# EAGLE library part DS3234 (library Mine)
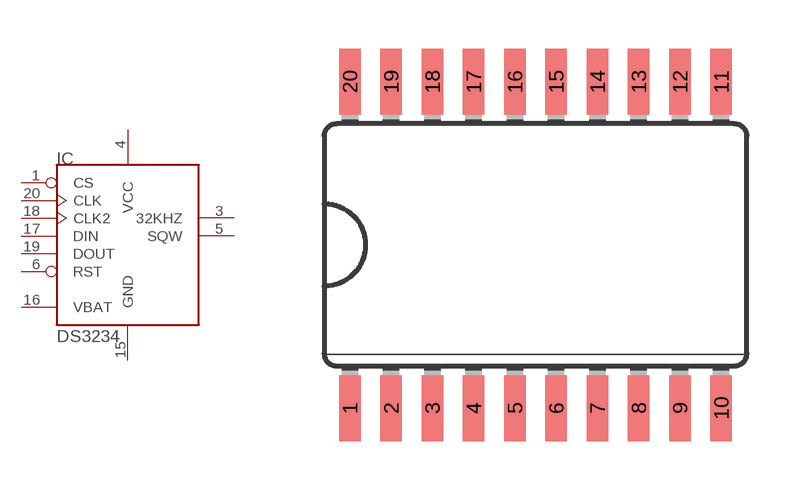
[diagram p17: symbol with the pads of SO20W; footprint SO20W]

Designator prefix IC

## DS3234  [SO20W]
1  CS  in
3  32KHZ  out
4  VCC  pwr
5  SQW  out
6  RST  in
15  GND  pwr
16  VBAT  pwr
17  DIN  in
18  CLK2  in
19  DOUT  out
20  CLK  in

## Footprint SO20W (pad centres in mm)
Wide Small Outline package 300 mil
smd 0.66 x 2.032: 1 -5.715,-5.029; 2 -4.445,-5.029; 3 -3.175,-5.029; 4 -1.905,-5.029; 5 -0.635,-5.029; 6 0.635,-5.029; 7 1.905,-5.029; 8 3.175,-5.029; 9 4.445,-5.029; 10 5.715,-5.029; 11 5.715,5.029; 12 4.445,5.029; 13 3.175,5.029; 14 1.905,5.029; 15 0.635,5.029; 16 -0.635,5.029; 17 -1.905,5.029; 18 -3.175,5.029; 19 -4.445,5.029; 20 -5.715,5.029